# Altium schematic symbol library Led.SchLib: 1 symbol
Pins are listed as number, name and electrical type; pins without a type are passive.

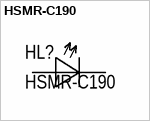
[diagram p0: symbol HSMR-C190]

## HSMR-C190
designator HL?
LED BLUE DIFFUSED CHIP SMD; Manufacture: Broadcom Limited; Name: Светодиод; Case: 0603 (1608 Metric); HelpURL: https://www.digikey.com/en/products/detail/broadcom-limited/HSMR-C190/1235444?s=N4IgTCBcDaIBIGUCyAlAtAYQIwE4AMIAugL5A; Value: HSMR-C190; Model: HSMR-C190
footprint Led0603
pins: 1 C, 2 A